# Altium integrated library micro_sd.IntLib: 1 symbol
Pins are listed as number, name and electrical type; pins without a type are passive.

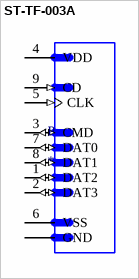
[diagram p0: symbol ST-TF-003A]

## ST-TF-003A
designator P
Micro SD Card Socket; MF: Suntech; MP: ST-TF-003A; Value: *; Price: None; Package: None; SnapEDA_Link: https://www.snapeda.com/parts/ST-TF-003A/Suntech/view-part/214778/?ref=snap; Availability: Unavailable
footprint SUNTECH_ST-TF-003A
pins: 1 DAT2 (io), 2 DAT3 (io), 3 CMD (io), 4 VDD (power), 5 CLK (in), 6 VSS, 7 DAT0 (io), 8 DAT1 (io), 9 CD (in), G1 GND, G2 GND, G3 GND, G4 GND